# EAGLE library part 618009211721 (library InputOutputIO (rev18b))
WR-DSUB 8.08mm Male Angled PCB Connector without Hex Screw, 9 pins=>Code : Con_I-O_DSUB_PCB_Male_wo-screw_618009211721 <http://katalog.we-online.de/media/images/eican/Con_I-O_DSUB_PCB_Male_wo-screw_6180xx211721_pf2.jpg> Details see: http://katalog.we-online.de/en/em/DSUB_MALE_ANGLED_PCB_CONNECTOR_W_O_HEX_SCREW_8_08MM_6180XX211721 Created 2014-07-10, Karrer Zheng 2014 (C) Würth Elektronik
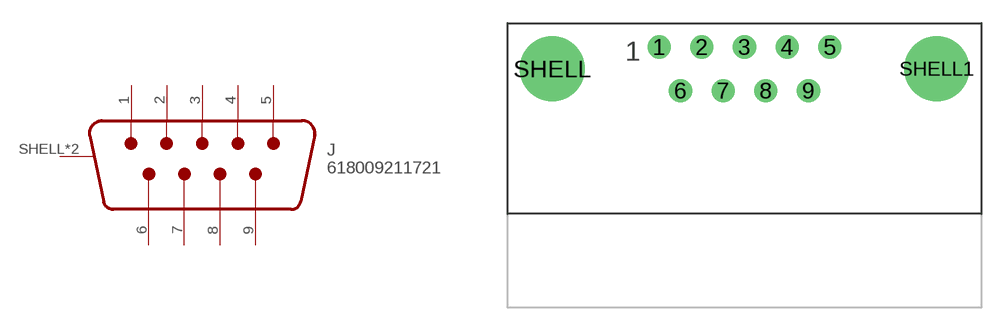
[diagram p24: symbol with the pads of 618009211721; footprint 618009211721]

Designator prefix J

## 618009211721  [618009211721]
1  1
2  2
3  3
4  4
5  5
6  6
7  7
8  8
9  9
SHELL  SHIELD
SHELL1  SHIELD

## Footprint 618009211721 (pad centres in mm)
WR-DSUB 8.08mm Male Angled PCB Connector without Hex Screw, 9 pins
drill 1: 1 -5.54,1.42; 2 -2.77,1.42; 3 0,1.42; 4 2.77,1.42; 5 5.54,1.42; 6 -4.155,-1.42; 7 -1.385,-1.42; 8 1.385,-1.42; 9 4.155,-1.42
drill 3.2: SHELL -12.5,0; SHELL1 12.5,0